# Altium schematic symbol library 2 Pin Header.SchLib: 1 symbol
Pins are listed as number, name and electrical type; pins without a type are passive.

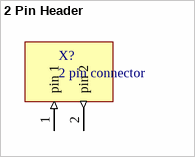
[diagram p0: symbol 2 Pin Header]

## 2 Pin Header
designator X?, comment 2 pin connector
pins: 1 pin 1 (in), 2 pin 2 (out)